# EAGLE library part TP4056 (library icv1)
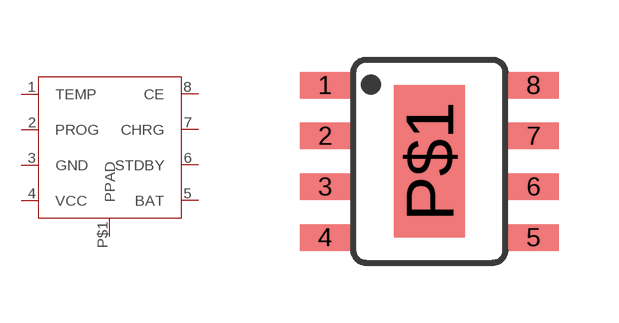
[diagram p6: symbol with the pads of SOIC127P600X170-8; footprint SOIC127P600X170-8]

Designator prefix P

## TP4056  [SOIC127P600X170-8]
1  TEMP
2  PROG
3  GND
4  VCC
5  BAT
6  STDBY
7  CHRG
8  CE
P$1  PPAD

## Footprint SOIC127P600X170-8 (pad centres in mm)
8-SOIC, 1.27 mm pitch, 6.00 mm span, 4.90 X 3.90 X 1.70 mm body 8-pin SOIC package with 1.27 mm pitch, 6.00 mm span with body size 4.90 X 3.90 X 1.70 mm
smd 1.27 x 0.66: 1 -2.607,1.905; 2 -2.607,0.635; 3 -2.607,-0.635; 4 -2.607,-1.905; 5 2.607,-1.905; 6 2.607,-0.635; 7 2.607,0.635; 8 2.607,1.905
smd 1.778 x 3.81: P$1 0,0